# Altium schematic symbol library Diode_On_Semiconductor_BAT54CLT1G_eec.SchLib: 1 symbol
Pins are listed as number, name and electrical type; pins without a type are passive.

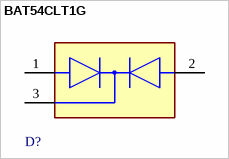
[diagram p0: symbol BAT54CLT1G]

## BAT54CLT1G
designator D?  (value not drawn)
pins: 1 1 ANODE, 2 2 ANODE, 3 C